# EAGLE library part TINY24/44/84S (library CEDT_JANUARY_2015_v6)
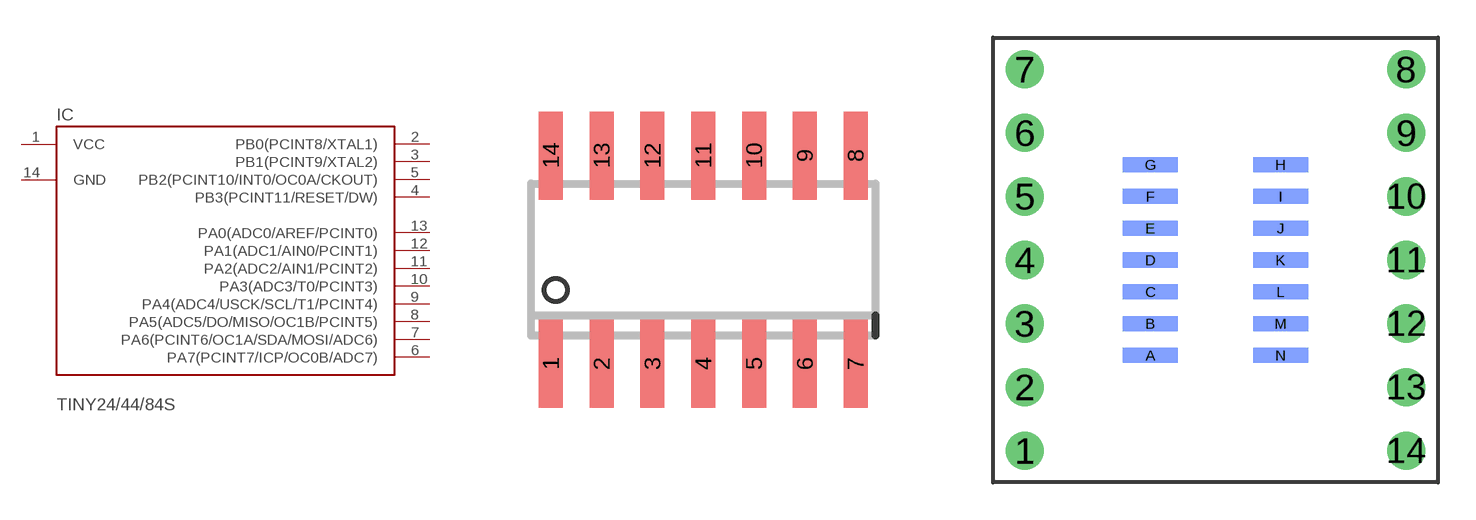
[diagram p2: symbol with the pads of SOIC14; footprints SOIC14, TINY44_BOB]

Designator prefix IC

## TINY24/44/84S  [SOIC14]
1  VCC  pwr
2  PB0(PCINT8/XTAL1)
3  PB1(PCINT9/XTAL2)
4  PB3(PCINT11/RESET/DW)
5  PB2(PCINT10/INT0/OC0A/CKOUT)
6  PA7(PCINT7/ICP/OC0B/ADC7)
7  PA6(PCINT6/OC1A/SDA/MOSI/ADC6)
8  PA5(ADC5/DO/MISO/OC1B/PCINT5)
9  PA4(ADC4/USCK/SCL/T1/PCINT4)
10  PA3(ADC3/T0/PCINT3)
11  PA2(ADC2/AIN1/PCINT2)
12  PA1(ADC1/AIN0/PCINT1)
13  PA0(ADC0/AREF/PCINT0)
14  GND  pwr

## TINY24/44/84STINY44_BOB  [TINY44_BOB]
1  VCC  pwr
2  PB0(PCINT8/XTAL1)
3  PB1(PCINT9/XTAL2)
4  PB3(PCINT11/RESET/DW)
5  PB2(PCINT10/INT0/OC0A/CKOUT)
6  PA7(PCINT7/ICP/OC0B/ADC7)
7  PA6(PCINT6/OC1A/SDA/MOSI/ADC6)
8  PA5(ADC5/DO/MISO/OC1B/PCINT5)
9  PA4(ADC4/USCK/SCL/T1/PCINT4)
10  PA3(ADC3/T0/PCINT3)
11  PA2(ADC2/AIN1/PCINT2)
12  PA1(ADC1/AIN0/PCINT1)
13  PA0(ADC0/AREF/PCINT0)
14  GND  pwr
A  VCC  pwr
B  PB0(PCINT8/XTAL1)
C  PB1(PCINT9/XTAL2)
D  PB3(PCINT11/RESET/DW)
E  PB2(PCINT10/INT0/OC0A/CKOUT)
F  PA7(PCINT7/ICP/OC0B/ADC7)
G  PA6(PCINT6/OC1A/SDA/MOSI/ADC6)
H  PA5(ADC5/DO/MISO/OC1B/PCINT5)
I  PA4(ADC4/USCK/SCL/T1/PCINT4)
J  PA3(ADC3/T0/PCINT3)
K  PA2(ADC2/AIN1/PCINT2)
L  PA1(ADC1/AIN0/PCINT1)
M  PA0(ADC0/AREF/PCINT0)
N  GND  pwr

## Footprint SOIC14 (pad centres in mm)
Small Outline Integrated Circuit - 14 Pins
smd 0.6 x 2.2: 1 -4.445,-2.6; 2 -3.175,-2.6; 3 -1.905,-2.6; 4 -0.635,-2.6; 5 0.635,-2.6; 6 1.905,-2.6; 7 3.175,-2.6; 8 3.175,2.6; 9 1.905,2.6; 10 0.635,2.6; 11 -0.635,2.6; 12 -1.905,2.6; 13 -3.175,2.6; 14 -4.445,2.6

## Footprint TINY44_BOB (pad centres in mm)
drill 0.6 pad 1.524: 1 1.27,1.905; 2 1.27,4.445; 3 1.27,6.985; 4 1.27,9.525; 5 1.27,12.065; 6 1.27,14.605; 7 1.27,17.145; 8 16.51,17.145; 9 16.51,14.605; 10 16.51,12.065; 11 16.51,9.525; 12 16.51,6.985; 13 16.51,4.445; 14 16.51,1.905
smd 2.2 x 0.6 bottom: A 6.29,5.715; B 6.29,6.985; C 6.29,8.255; D 6.29,9.525; E 6.29,10.795; F 6.29,12.065; G 6.29,13.335; H 11.49,13.335; I 11.49,12.065; J 11.49,10.795; K 11.49,9.525; L 11.49,8.255; M 11.49,6.985; N 11.49,5.715